# Altium schematic symbol library BL9320.SchLib: 1 symbol
Pins are listed as number, name and electrical type; pins without a type are passive.

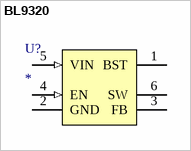
[diagram p0: symbol BL9320]

## BL9320
designator U?
pins: 1 BST, 2 GND (power), 3 FB, 4 EN (in), 5 VIN (in), 6 SW